# EAGLE library part MAX7221 (library 1_Robo-Lib)
SPI 7-Sement Driver
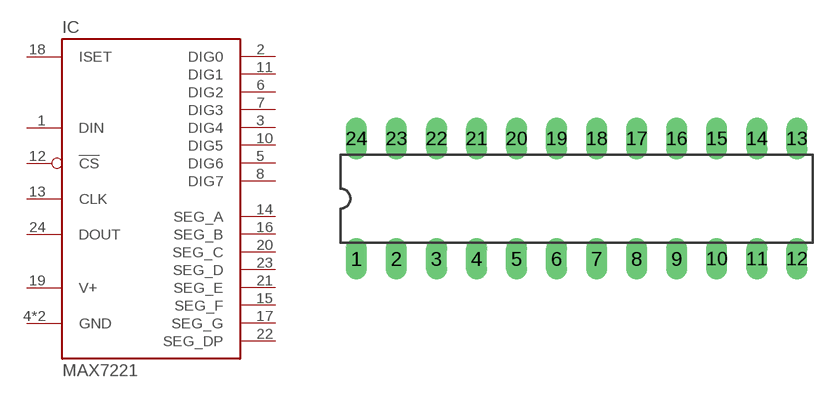
[diagram p4: symbol with the pads of DIL24-3; footprint DIL24-3]

Designator prefix IC

## MAX7221CNG+  [DIL24-3]
1  DIN
2  DIG0
3  DIG4
4  GND  pwr
5  DIG6
6  DIG2
7  DIG3
8  DIG7
9  GND  pwr
10  DIG5
11  DIG1
12  !CS
13  CLK
14  SEG_A
15  SEG_F
16  SEG_B
17  SEG_G
18  ISET
19  V+  pwr
20  SEG_C
21  SEG_E
22  SEG_DP
23  SEG_D
24  DOUT

## Footprint DIL24-3 (pad centres in mm)
Dual In Line Package 0.3 inch
drill 0.813 long: 1 -13.97,-3.81; 2 -11.43,-3.81; 3 -8.89,-3.81; 4 -6.35,-3.81; 5 -3.81,-3.81; 6 -1.27,-3.81; 7 1.27,-3.81; 8 3.81,-3.81; 9 6.35,-3.81; 10 8.89,-3.81; 11 11.43,-3.81; 12 13.97,-3.81; 13 13.97,3.81; 14 11.43,3.81; 15 8.89,3.81; 16 6.35,3.81; 17 3.81,3.81; 18 1.27,3.81; 19 -1.27,3.81; 20 -3.81,3.81; 21 -6.35,3.81; 22 -8.89,3.81; 23 -11.43,3.81; 24 -13.97,3.81